# Altium integrated library TI Amplifiers and Linear Special Function Amplifier.IntLib: 708 symbols (part 4 of 47)
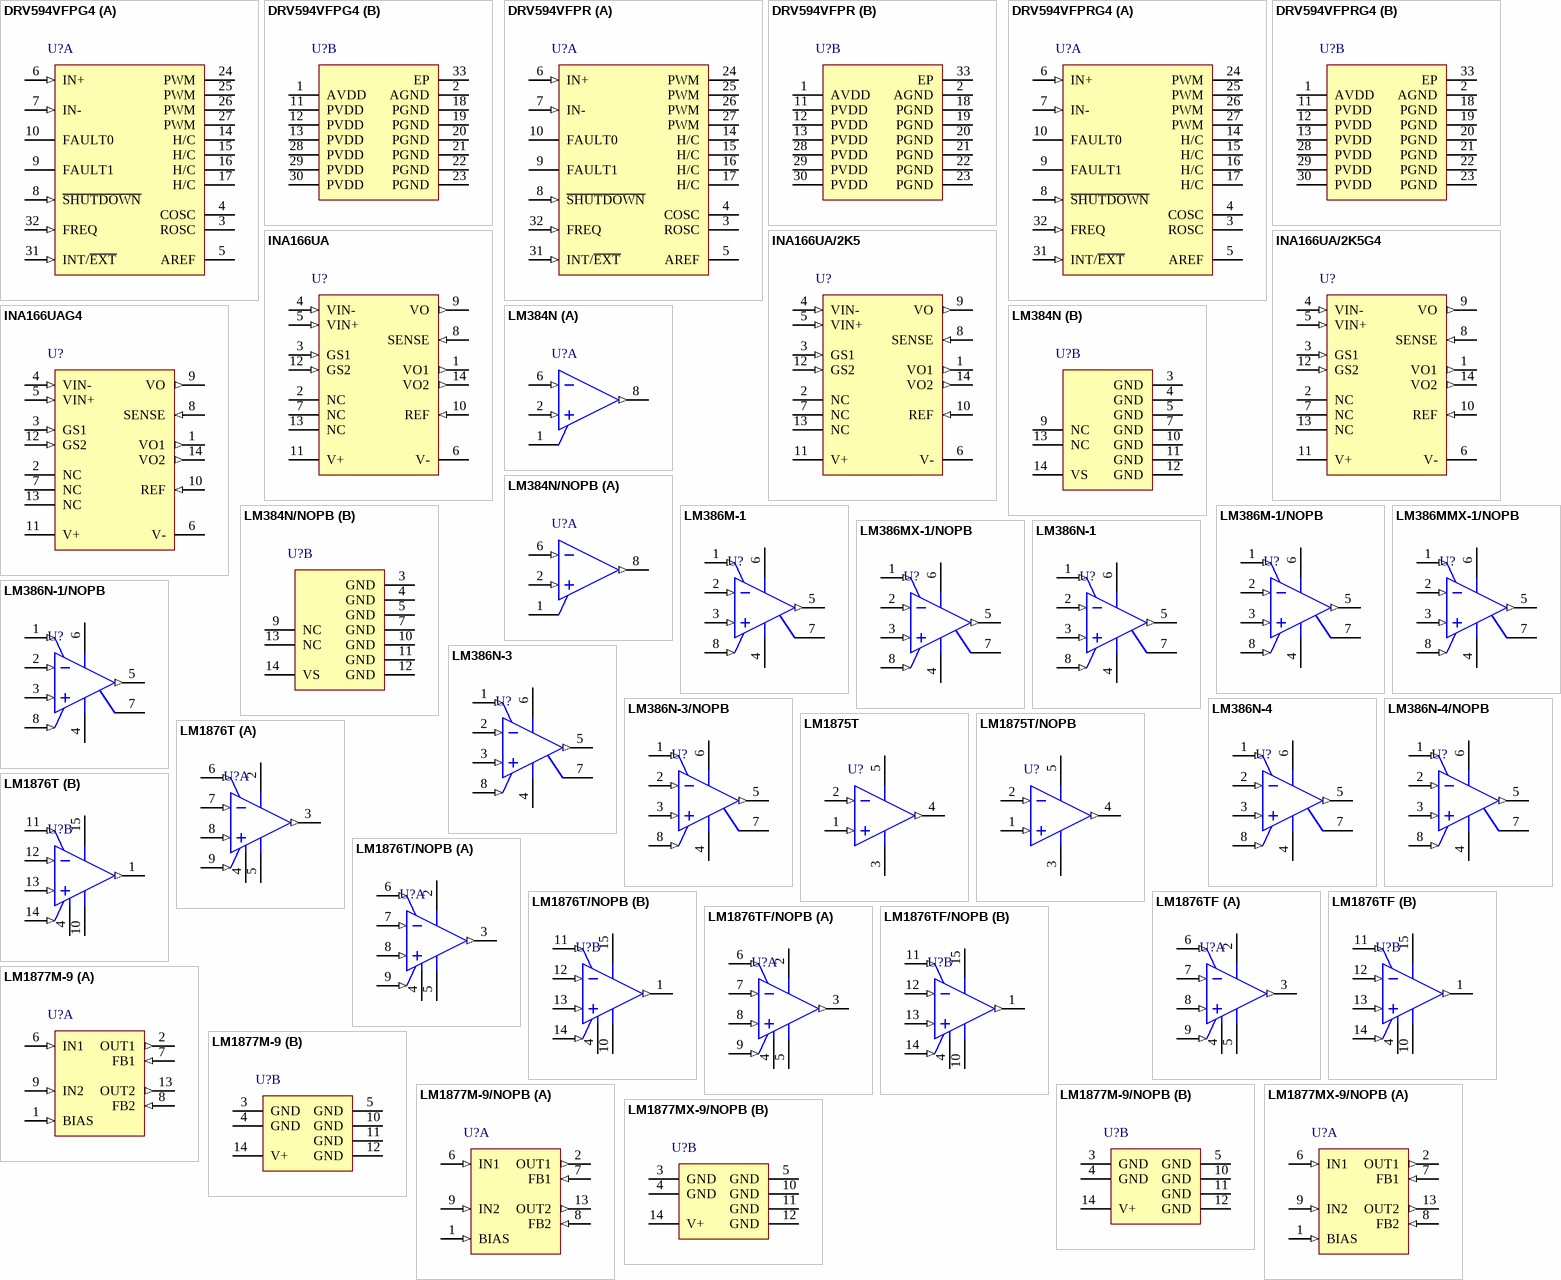
[diagram p42: symbols DRV594VFPG4 to LM1877MX-9/NOPB]

## DRV594VFPG4
designator U?
+/-3 A High-Efficiency PWM Power Driver, -40 to 85 degC, 32-pin QFP (VFP32); Manufacturer: Texas Instruments; PartNumber: DRV594VFPG4; Iq(mA): 4; Iq(Max)(mA): 12; rDS(on)(Ohms): 0.06; Thermal Shutdown: TRUE; Vs(Max)(V): 5.5; Vs(Min)(V): 2.8; DatasheetVersion: SLOS401C; PackageVersion: 4200791/C, 04/2012; PackageReference: VFP32-3505X3505TP; PackageDescription: 32-Pin PowerPAD(TM) Plastic Quad Flatpack, Body 7 x 7 mm, Pitch 0.8 mm; Supplier 1: Mouser; Supplier Part Number 1: N/A; Mounting Technology: Surface Mount; Code_JEDEC: MS-026; ComponentLink1Description: Manufacturer URL; ComponentLink1URL: http://www.ti.com/; ComponentLink2Description: Datasheet; ComponentLink2URL: http://www.ti.com/general/docs/lit/getliterature.tsp?genericPartNumber=DRV594&fileType=pdf; ComponentLink3Description: Package Specification; ComponentLink3URL: http://www.ti.com/lit/ml/mpqf098b/mpqf098b.pdf
footprint TI-VFP32-3505X3505TP_N (QFP, 32-Leads, Body 7x7mm, Pitch 0.8mm, Thermal Pad 3.505x3.505mm, IPC Medium Density)
footprint TI-VFP32-3505X3505TP_L (QFP, 32-Leads, Body 7x7mm, Pitch 0.8mm, Thermal Pad 3.505x3.505mm, IPC High Density)
footprint TI-VFP32-3505X3505TP_M (QFP, 32-Leads, Body 7x7mm, Pitch 0.8mm, Thermal Pad 3.505x3.505mm, IPC Low Density)
part A pins: 3 ROSC "Connect 120-kohm resistor to AGND to set oscillation frequency (either 500 kHz or 100 kHz). Not needed if an external clock is used", 4 COSC "Connect capacitor to ground to set oscillation frequency (220 pF for 500 kHz, 1 nF for 100 kHz) when the internal oscillator is selected; connect clock signal when an external oscillator is used", 5 AREF "Connect 1uF capacitor to ground for AREF voltage filtering", 6 IN+ (in) "Positive differential input", 7 IN- (in) "Negative differential input", 8 ~{SHUTDOWN} (in) "Places the amplifier in shutdown mode when a TTL logic low is applied to this terminal; places the amplifier in normal operation when a TTL logic high is applied", 9 FAULT1 (oc) "Fault flag 1, high when active open drain output (see application information)", 10 FAULT0 (oc) "Fault flag 0, low when active open drain output (see application information)", 14 H/C (hiz) "Direction control output for heat and cool modes (4 pins)", 15 H/C (hiz) "Direction control output for heat and cool modes (4 pins)", 16 H/C (hiz) "Direction control output for heat and cool modes (4 pins)", 17 H/C (hiz) "Direction control output for heat and cool modes (4 pins)", 24 PWM (hiz) "PWM output for voltage magnitude (4 pins)", 25 PWM (hiz) "PWM output for voltage magnitude (4 pins)", 26 PWM (hiz) "PWM output for voltage magnitude (4 pins)", 27 PWM (hiz) "PWM output for voltage magnitude (4 pins)", 31 INT/~{EXT} (in) "Selects the internal oscillator when a TTL logic high is applied to this terminal; selects the use of an external oscillator when a TTL logic low is applied to this terminal", 32 FREQ (in) "Selects 500 kHz switching frequency when a TTL logic low is applied to this terminal; selects 100 kHz switching frequency when a TTL logic high is applied"
part B pins: 1 AVDD (power) "Analog power supply", 2 AGND (power) "Analog ground", 11 PVDD (power) "High-current power supply (6 pins)", 12 PVDD (power) "High-current power supply (6 pins)", 13 PVDD (power) "High-current power supply (6 pins)", 18 PGND (power) "High-current ground (6 pins)", 19 PGND (power) "High-current ground (6 pins)", 20 PGND (power) "High-current ground (6 pins)", 21 PGND (power) "High-current ground (6 pins)", 22 PGND (power) "High-current ground (6 pins)", 23 PGND (power) "High-current ground (6 pins)", 28 PVDD (power) "High-current power supply (6 pins)", 29 PVDD (power) "High-current power supply (6 pins)", 30 PVDD (power) "High-current power supply (6 pins)", 33 EP (power) "Exposed thermal pad"

## DRV594VFPR
designator U?
+/-3 A High-Efficiency PWM Power Driver, -40 to 85 degC, 32-pin QFP (VFP32), Green (RoHS & no Sb/Br); Manufacturer: Texas Instruments; PartNumber: DRV594VFPR; Iq(mA): 4; Iq(Max)(mA): 12; rDS(on)(Ohms): 0.06; Thermal Shutdown: TRUE; Vs(Max)(V): 5.5; Vs(Min)(V): 2.8; DatasheetVersion: SLOS401C; PackageVersion: 4200791/C, 04/2012; PackageReference: VFP32-3505X3505TP; PackageDescription: 32-Pin PowerPAD(TM) Plastic Quad Flatpack, Body 7 x 7 mm, Pitch 0.8 mm; Supplier 1: Digi-Key; Supplier Part Number 1: 296-13644-2-ND; Supplier 2: Digi-Key; Supplier Part Number 2: 296-13644-1-ND; Supplier 3: Digi-Key; Supplier Part Number 3: 296-13644-6-ND; Supplier 4: Newark; Supplier Part Number 4: 02E2697; Supplier 5: Mouser; Supplier Part Number 5: 595-DRV594VFPR; Eco-Plan: Green (RoHS & no Sb/Br); Mounting Technology: Surface Mount; Code_JEDEC: MS-026; ComponentLink1Description: Manufacturer URL; ComponentLink1URL: http://www.ti.com/; ComponentLink2Description: Datasheet; ComponentLink2URL: http://www.ti.com/general/docs/lit/getliterature.tsp?genericPartNumber=DRV594&fileType=pdf; ComponentLink3Description: Package Specification; ComponentLink3URL: http://www.ti.com/lit/ml/mpqf098b/mpqf098b.pdf
footprint TI-VFP32-3505X3505TP_N (QFP, 32-Leads, Body 7x7mm, Pitch 0.8mm, Thermal Pad 3.505x3.505mm, IPC Medium Density)
footprint TI-VFP32-3505X3505TP_L (QFP, 32-Leads, Body 7x7mm, Pitch 0.8mm, Thermal Pad 3.505x3.505mm, IPC High Density)
footprint TI-VFP32-3505X3505TP_M (QFP, 32-Leads, Body 7x7mm, Pitch 0.8mm, Thermal Pad 3.505x3.505mm, IPC Low Density)
part A pins: 3 ROSC "Connect 120-kohm resistor to AGND to set oscillation frequency (either 500 kHz or 100 kHz). Not needed if an external clock is used", 4 COSC "Connect capacitor to ground to set oscillation frequency (220 pF for 500 kHz, 1 nF for 100 kHz) when the internal oscillator is selected; connect clock signal when an external oscillator is used", 5 AREF "Connect 1uF capacitor to ground for AREF voltage filtering", 6 IN+ (in) "Positive differential input", 7 IN- (in) "Negative differential input", 8 ~{SHUTDOWN} (in) "Places the amplifier in shutdown mode when a TTL logic low is applied to this terminal; places the amplifier in normal operation when a TTL logic high is applied", 9 FAULT1 (oc) "Fault flag 1, high when active open drain output (see application information)", 10 FAULT0 (oc) "Fault flag 0, low when active open drain output (see application information)", 14 H/C (hiz) "Direction control output for heat and cool modes (4 pins)", 15 H/C (hiz) "Direction control output for heat and cool modes (4 pins)", 16 H/C (hiz) "Direction control output for heat and cool modes (4 pins)", 17 H/C (hiz) "Direction control output for heat and cool modes (4 pins)", 24 PWM (hiz) "PWM output for voltage magnitude (4 pins)", 25 PWM (hiz) "PWM output for voltage magnitude (4 pins)", 26 PWM (hiz) "PWM output for voltage magnitude (4 pins)", 27 PWM (hiz) "PWM output for voltage magnitude (4 pins)", 31 INT/~{EXT} (in) "Selects the internal oscillator when a TTL logic high is applied to this terminal; selects the use of an external oscillator when a TTL logic low is applied to this terminal", 32 FREQ (in) "Selects 500 kHz switching frequency when a TTL logic low is applied to this terminal; selects 100 kHz switching frequency when a TTL logic high is applied"
part B pins: 1 AVDD (power) "Analog power supply", 2 AGND (power) "Analog ground", 11 PVDD (power) "High-current power supply (6 pins)", 12 PVDD (power) "High-current power supply (6 pins)", 13 PVDD (power) "High-current power supply (6 pins)", 18 PGND (power) "High-current ground (6 pins)", 19 PGND (power) "High-current ground (6 pins)", 20 PGND (power) "High-current ground (6 pins)", 21 PGND (power) "High-current ground (6 pins)", 22 PGND (power) "High-current ground (6 pins)", 23 PGND (power) "High-current ground (6 pins)", 28 PVDD (power) "High-current power supply (6 pins)", 29 PVDD (power) "High-current power supply (6 pins)", 30 PVDD (power) "High-current power supply (6 pins)", 33 EP (power) "Exposed thermal pad"

## DRV594VFPRG4
designator U?
+/-3 A High-Efficiency PWM Power Driver, -40 to 85 degC, 32-pin QFP (VFP32); Manufacturer: Texas Instruments; PartNumber: DRV594VFPRG4; Iq(mA): 4; Iq(Max)(mA): 12; rDS(on)(Ohms): 0.06; Thermal Shutdown: TRUE; Vs(Max)(V): 5.5; Vs(Min)(V): 2.8; DatasheetVersion: SLOS401C; PackageVersion: 4200791/C, 04/2012; PackageReference: VFP32-3505X3505TP; PackageDescription: 32-Pin PowerPAD(TM) Plastic Quad Flatpack, Body 7 x 7 mm, Pitch 0.8 mm; Supplier 1: Mouser; Supplier Part Number 1: N/A; Mounting Technology: Surface Mount; Code_JEDEC: MS-026; ComponentLink1Description: Manufacturer URL; ComponentLink1URL: http://www.ti.com/; ComponentLink2Description: Datasheet; ComponentLink2URL: http://www.ti.com/general/docs/lit/getliterature.tsp?genericPartNumber=DRV594&fileType=pdf; ComponentLink3Description: Package Specification; ComponentLink3URL: http://www.ti.com/lit/ml/mpqf098b/mpqf098b.pdf
footprint TI-VFP32-3505X3505TP_N (QFP, 32-Leads, Body 7x7mm, Pitch 0.8mm, Thermal Pad 3.505x3.505mm, IPC Medium Density)
footprint TI-VFP32-3505X3505TP_L (QFP, 32-Leads, Body 7x7mm, Pitch 0.8mm, Thermal Pad 3.505x3.505mm, IPC High Density)
footprint TI-VFP32-3505X3505TP_M (QFP, 32-Leads, Body 7x7mm, Pitch 0.8mm, Thermal Pad 3.505x3.505mm, IPC Low Density)
part A pins: 3 ROSC "Connect 120-kohm resistor to AGND to set oscillation frequency (either 500 kHz or 100 kHz). Not needed if an external clock is used", 4 COSC "Connect capacitor to ground to set oscillation frequency (220 pF for 500 kHz, 1 nF for 100 kHz) when the internal oscillator is selected; connect clock signal when an external oscillator is used", 5 AREF "Connect 1uF capacitor to ground for AREF voltage filtering", 6 IN+ (in) "Positive differential input", 7 IN- (in) "Negative differential input", 8 ~{SHUTDOWN} (in) "Places the amplifier in shutdown mode when a TTL logic low is applied to this terminal; places the amplifier in normal operation when a TTL logic high is applied", 9 FAULT1 (oc) "Fault flag 1, high when active open drain output (see application information)", 10 FAULT0 (oc) "Fault flag 0, low when active open drain output (see application information)", 14 H/C (hiz) "Direction control output for heat and cool modes (4 pins)", 15 H/C (hiz) "Direction control output for heat and cool modes (4 pins)", 16 H/C (hiz) "Direction control output for heat and cool modes (4 pins)", 17 H/C (hiz) "Direction control output for heat and cool modes (4 pins)", 24 PWM (hiz) "PWM output for voltage magnitude (4 pins)", 25 PWM (hiz) "PWM output for voltage magnitude (4 pins)", 26 PWM (hiz) "PWM output for voltage magnitude (4 pins)", 27 PWM (hiz) "PWM output for voltage magnitude (4 pins)", 31 INT/~{EXT} (in) "Selects the internal oscillator when a TTL logic high is applied to this terminal; selects the use of an external oscillator when a TTL logic low is applied to this terminal", 32 FREQ (in) "Selects 500 kHz switching frequency when a TTL logic low is applied to this terminal; selects 100 kHz switching frequency when a TTL logic high is applied"
part B pins: 1 AVDD (power) "Analog power supply", 2 AGND (power) "Analog ground", 11 PVDD (power) "High-current power supply (6 pins)", 12 PVDD (power) "High-current power supply (6 pins)", 13 PVDD (power) "High-current power supply (6 pins)", 18 PGND (power) "High-current ground (6 pins)", 19 PGND (power) "High-current ground (6 pins)", 20 PGND (power) "High-current ground (6 pins)", 21 PGND (power) "High-current ground (6 pins)", 22 PGND (power) "High-current ground (6 pins)", 23 PGND (power) "High-current ground (6 pins)", 28 PVDD (power) "High-current power supply (6 pins)", 29 PVDD (power) "High-current power supply (6 pins)", 30 PVDD (power) "High-current power supply (6 pins)", 33 EP (power) "Exposed thermal pad"

## INA166UA
designator U?
Low-Noise, Low-Distortion, G=2000 Instrumentation Amplifier, 14-pin SOIC (D14), Green (RoHS & no Sb/Br); Manufacturer: Texas Instruments; PartNumber: INA166UA; CMRR(Min)(dB): 100; Gain(V/V): 2000; Input Bias Current (+/-)(Max)(nA): 12000; Input Offset (+/-)(Max)(uV): 250; Input Offset Drift (+/-)(Typ)(uV/Degrees Celsius): 2.5; Noise at 1kHz(Typ)(nV/rt(Hz)): 1.3; Non-Linearity (+/-)(Max)(%): 0.005; Quiescent Current (+/-)(Typ)(mA): 10; Settling Time to 0.01%(Typ)(us): 3.5; SubFamily: Microphone Preamplifier; Vmax(V): 36; Vmin(V): 9; DatasheetVersion: SBOS178; PackageVersion: 4040047-5/M, 06/2011; PackageReference: D14; PackageDescription: 14-Pin Plastic Small Outline, Body 8.65 x 3.9 mm, Pitch 1.27 mm; Supplier 1: Digi-Key; Supplier Part Number 1: INA166UA-ND; Supplier 2: Newark; Supplier Part Number 2: 74C9827; Supplier 3: Mouser; Supplier Part Number 3: 595-INA166UA; Eco-Plan: Green (RoHS & no Sb/Br); Mounting Technology: Surface Mount; Code_JEDEC: MS-012; ComponentLink1Description: Manufacturer URL; ComponentLink1URL: http://www.ti.com/; ComponentLink2Description: Datasheet; ComponentLink2URL: http://www.ti.com/general/docs/lit/getliterature.tsp?genericPartNumber=INA166&fileType=pdf; ComponentLink3Description: Package Specification; ComponentLink3URL: http://www.ti.com/lit/ml/mpds177g/mpds177g.pdf
footprint TI-D14_N (SOIC, 14-Leads, Body 8.75x4mm, Pitch 1.27mm, IPC Medium Density)
footprint TI-D14_L (SOIC, 14-Leads, Body 8.75x4mm, Pitch 1.27mm, IPC High Density)
footprint TI-D14_M (SOIC, 14-Leads, Body 8.75x4mm, Pitch 1.27mm, IPC Low Density)
pins: 1 VO1 (out), 2 NC, 3 GS1 (in), 4 VIN- (in), 5 VIN+ (in), 6 V- (power), 7 NC, 8 SENSE (in), 9 VO (out), 10 REF (in), 11 V+ (power), 12 GS2 (in), 13 NC, 14 VO2 (out)

## INA166UA/2K5
designator U?
Low-Noise, Low-Distortion, G=2000 Instrumentation Amplifier, 14-pin SOIC (D14), Green (RoHS & no Sb/Br); Manufacturer: Texas Instruments; PartNumber: INA166UA/2K5; CMRR(Min)(dB): 100; Gain(V/V): 2000; Input Bias Current (+/-)(Max)(nA): 12000; Input Offset (+/-)(Max)(uV): 250; Input Offset Drift (+/-)(Typ)(uV/Degrees Celsius): 2.5; Noise at 1kHz(Typ)(nV/rt(Hz)): 1.3; Non-Linearity (+/-)(Max)(%): 0.005; Quiescent Current (+/-)(Typ)(mA): 10; Settling Time to 0.01%(Typ)(us): 3.5; SubFamily: Microphone Preamplifier; Vmax(V): 36; Vmin(V): 9; DatasheetVersion: SBOS178; PackageVersion: 4040047-5/M, 06/2011; PackageReference: D14; PackageDescription: 14-Pin Plastic Small Outline, Body 8.65 x 3.9 mm, Pitch 1.27 mm; Supplier 1: Digi-Key; Supplier Part Number 1: INA166UATR-ND; Supplier 2: Mouser; Supplier Part Number 2: 595-INA166UA/2K5; Eco-Plan: Green (RoHS & no Sb/Br); Mounting Technology: Surface Mount; Code_JEDEC: MS-012; ComponentLink1Description: Manufacturer URL; ComponentLink1URL: http://www.ti.com/; ComponentLink2Description: Datasheet; ComponentLink2URL: http://www.ti.com/general/docs/lit/getliterature.tsp?genericPartNumber=INA166&fileType=pdf; ComponentLink3Description: Package Specification; ComponentLink3URL: http://www.ti.com/lit/ml/mpds177g/mpds177g.pdf
footprint TI-D14_N (SOIC, 14-Leads, Body 8.75x4mm, Pitch 1.27mm, IPC Medium Density)
footprint TI-D14_L (SOIC, 14-Leads, Body 8.75x4mm, Pitch 1.27mm, IPC High Density)
footprint TI-D14_M (SOIC, 14-Leads, Body 8.75x4mm, Pitch 1.27mm, IPC Low Density)
pins: 1 VO1 (out), 2 NC, 3 GS1 (in), 4 VIN- (in), 5 VIN+ (in), 6 V- (power), 7 NC, 8 SENSE (in), 9 VO (out), 10 REF (in), 11 V+ (power), 12 GS2 (in), 13 NC, 14 VO2 (out)

## INA166UA/2K5G4
designator U?
Low-Noise, Low-Distortion, G=2000 Instrumentation Amplifier, 14-pin SOIC (D14), Green (RoHS & no Sb/Br); Manufacturer: Texas Instruments; PartNumber: INA166UA/2K5G4; CMRR(Min)(dB): 100; Gain(V/V): 2000; Input Bias Current (+/-)(Max)(nA): 12000; Input Offset (+/-)(Max)(uV): 250; Input Offset Drift (+/-)(Typ)(uV/Degrees Celsius): 2.5; Noise at 1kHz(Typ)(nV/rt(Hz)): 1.3; Non-Linearity (+/-)(Max)(%): 0.005; Quiescent Current (+/-)(Typ)(mA): 10; Settling Time to 0.01%(Typ)(us): 3.5; SubFamily: Microphone Preamplifier; Vmax(V): 36; Vmin(V): 9; DatasheetVersion: SBOS178; PackageVersion: 4040047-5/M, 06/2011; PackageReference: D14; PackageDescription: 14-Pin Plastic Small Outline, Body 8.65 x 3.9 mm, Pitch 1.27 mm; Supplier 1: Digi-Key; Supplier Part Number 1: INA166UA/2K5G4-ND; Supplier 2: Mouser; Supplier Part Number 2: 595-INA166UA/2K5G4; Eco-Plan: Green (RoHS & no Sb/Br); Mounting Technology: Surface Mount; Code_JEDEC: MS-012; ComponentLink1Description: Manufacturer URL; ComponentLink1URL: http://www.ti.com/; ComponentLink2Description: Datasheet; ComponentLink2URL: http://www.ti.com/general/docs/lit/getliterature.tsp?genericPartNumber=INA166&fileType=pdf; ComponentLink3Description: Package Specification; ComponentLink3URL: http://www.ti.com/lit/ml/mpds177g/mpds177g.pdf
footprint TI-D14_N (SOIC, 14-Leads, Body 8.75x4mm, Pitch 1.27mm, IPC Medium Density)
footprint TI-D14_L (SOIC, 14-Leads, Body 8.75x4mm, Pitch 1.27mm, IPC High Density)
footprint TI-D14_M (SOIC, 14-Leads, Body 8.75x4mm, Pitch 1.27mm, IPC Low Density)
pins: 1 VO1 (out), 2 NC, 3 GS1 (in), 4 VIN- (in), 5 VIN+ (in), 6 V- (power), 7 NC, 8 SENSE (in), 9 VO (out), 10 REF (in), 11 V+ (power), 12 GS2 (in), 13 NC, 14 VO2 (out)

## INA166UAG4
designator U?
Low-Noise, Low-Distortion, G=2000 Instrumentation Amplifier, 14-pin SOIC (D14), Green (RoHS & no Sb/Br); Manufacturer: Texas Instruments; PartNumber: INA166UAG4; CMRR(Min)(dB): 100; Gain(V/V): 2000; Input Bias Current (+/-)(Max)(nA): 12000; Input Offset (+/-)(Max)(uV): 250; Input Offset Drift (+/-)(Typ)(uV/Degrees Celsius): 2.5; Noise at 1kHz(Typ)(nV/rt(Hz)): 1.3; Non-Linearity (+/-)(Max)(%): 0.005; Quiescent Current (+/-)(Typ)(mA): 10; Settling Time to 0.01%(Typ)(us): 3.5; SubFamily: Microphone Preamplifier; Vmax(V): 36; Vmin(V): 9; DatasheetVersion: SBOS178; PackageVersion: 4040047-5/M, 06/2011; PackageReference: D14; PackageDescription: 14-Pin Plastic Small Outline, Body 8.65 x 3.9 mm, Pitch 1.27 mm; Supplier 1: Digi-Key; Supplier Part Number 1: INA166UAG4-ND; Supplier 2: Mouser; Supplier Part Number 2: 595-INA166UAG4; Eco-Plan: Green (RoHS & no Sb/Br); Mounting Technology: Surface Mount; Code_JEDEC: MS-012; ComponentLink1Description: Manufacturer URL; ComponentLink1URL: http://www.ti.com/; ComponentLink2Description: Datasheet; ComponentLink2URL: http://www.ti.com/general/docs/lit/getliterature.tsp?genericPartNumber=INA166&fileType=pdf; ComponentLink3Description: Package Specification; ComponentLink3URL: http://www.ti.com/lit/ml/mpds177g/mpds177g.pdf
footprint TI-D14_N (SOIC, 14-Leads, Body 8.75x4mm, Pitch 1.27mm, IPC Medium Density)
footprint TI-D14_L (SOIC, 14-Leads, Body 8.75x4mm, Pitch 1.27mm, IPC High Density)
footprint TI-D14_M (SOIC, 14-Leads, Body 8.75x4mm, Pitch 1.27mm, IPC Low Density)
pins: 1 VO1 (out), 2 NC, 3 GS1 (in), 4 VIN- (in), 5 VIN+ (in), 6 V- (power), 7 NC, 8 SENSE (in), 9 VO (out), 10 REF (in), 11 V+ (power), 12 GS2 (in), 13 NC, 14 VO2 (out)

## LM384N
designator U?
5 W Audio Power Amplifier, 0 to 70 degC, 14-pin DIP (NFF14); Manufacturer: Texas Instruments; PartNumber: LM384N; Input Type: Analog; Max. Number of Speaker Outputs: 1; SubFamily: Mid/High-Power Amplifier; DatasheetVersion: SNAS547C; PackageVersion: Rev. G, 02/2013; PackageDescription: 14-Pin Plastic In-Line, Body 19.05 x 6.35 mm, Pitch 2.54 mm; Supplier 1: Digi-Key; Supplier Part Number 1: LM384N-ND; Supplier 2: Farnell; Supplier Part Number 2: 9488316; Supplier 3: Newark; Supplier Part Number 3: 92F291; Supplier 4: Mouser; Supplier Part Number 4: 926-LM384N; Mounting Technology: Through Hole; ComponentLink1Description: Manufacturer URL; ComponentLink1URL: http://www.ti.com/; ComponentLink2Description: Datasheet; ComponentLink2URL: http://www.ti.com/general/docs/lit/getliterature.tsp?genericPartNumber=LM384&fileType=pdf; ComponentLink3Description: Package Specification; ComponentLink3URL: http://www.ti.com/litv/pdf/mpdi093
footprint TI-NFF14 (DIP, 14-Leads, Body 19.05x6.35mm, Pitch 2.54mm)
part A pins: 1 BYPASS, 2 IN+ (in), 6 IN- (in), 8 VOUT (out)
part B pins: 3 GND (power), 4 GND (power), 5 GND (power), 7 GND (power), 9 NC, 10 GND (power), 11 GND (power), 12 GND (power), 13 NC, 14 VS (power)

## LM384N/NOPB
designator U?
5 W Audio Power Amplifier, 0 to 70 degC, 14-pin DIP (NFF14), Pb-Free (RoHS Exempt); Manufacturer: Texas Instruments; PartNumber: LM384N/NOPB; Input Type: Analog; Max. Number of Speaker Outputs: 1; SubFamily: Mid/High-Power Amplifier; DatasheetVersion: SNAS547C; PackageVersion: Rev. G, 02/2013; PackageDescription: 14-Pin Plastic In-Line, Body 19.05 x 6.35 mm, Pitch 2.54 mm; Supplier 1: Digi-Key; Supplier Part Number 1: LM384N/NOPB-ND; Supplier 2: Farnell; Supplier Part Number 2: 1184984; Supplier 3: Newark; Supplier Part Number 3: 41K5062; Supplier 4: Mouser; Supplier Part Number 4: 926-LM384N/NOPB; Eco-Plan: Pb-Free (RoHS Exempt); Mounting Technology: Through Hole; ComponentLink1Description: Manufacturer URL; ComponentLink1URL: http://www.ti.com/; ComponentLink2Description: Datasheet; ComponentLink2URL: http://www.ti.com/general/docs/lit/getliterature.tsp?genericPartNumber=LM384&fileType=pdf; ComponentLink3Description: Package Specification; ComponentLink3URL: http://www.ti.com/litv/pdf/mpdi093
footprint TI-NFF14 (DIP, 14-Leads, Body 19.05x6.35mm, Pitch 2.54mm)
part A pins: 1 BYPASS, 2 IN+ (in), 6 IN- (in), 8 VOUT (out)
part B pins: 3 GND (power), 4 GND (power), 5 GND (power), 7 GND (power), 9 NC, 10 GND (power), 11 GND (power), 12 GND (power), 13 NC, 14 VS (power)

## LM386M-1
designator U?
Low Voltage Audio Power Amplifier, 0 to 70 degC, 8-pin SOIC (D8); Manufacturer: Texas Instruments; PartNumber: LM386M-1; Input Type: Analog; Max. Number of Speaker Outputs: 1; SubFamily: Mid/High-Power Amplifier; DatasheetVersion: SNAS545A; PackageVersion: 4040047-3/M, 06/2011; PackageReference: D8; PackageDescription: 8-Pin Plastic Small Outline, Body 4.9 x 3.9 mm, Pitch 1.27 mm; Supplier 1: Digi-Key; Supplier Part Number 1: LM386M-1-ND; Supplier 2: Farnell; Supplier Part Number 2: 9488324; Supplier 3: Newark; Supplier Part Number 3: 92F292; Supplier 4: Mouser; Supplier Part Number 4: 926-LM386M-1; Mounting Technology: Surface Mount; Code_JEDEC: MS-012; ComponentLink1Description: Manufacturer URL; ComponentLink1URL: http://www.ti.com/; ComponentLink2Description: Datasheet; ComponentLink2URL: http://www.ti.com/general/docs/lit/getliterature.tsp?genericPartNumber=LM386&fileType=pdf; ComponentLink3Description: Package Specification; ComponentLink3URL: http://www.ti.com/litv/pdf/msoi002j
footprint TI-D8_N (SOIC, 8-Leads, Body 5x4mm, Pitch 1.27mm, IPC Medium Density)
footprint TI-D8_L (SOIC, 8-Leads, Body 5x4mm, Pitch 1.27mm, IPC High Density)
footprint TI-D8_M (SOIC, 8-Leads, Body 5x4mm, Pitch 1.27mm, IPC Low Density)
pins: 1 GAIN (in), 2 IN- (in), 3 IN+ (in), 4 GND (power), 5 VOUT (out), 6 VS (power), 7 BYPASS, 8 GAIN (in)

## LM386M-1/NOPB
designator U?
Low Voltage Audio Power Amplifier, 0 to 70 degC, 8-pin SOIC (D8), Green (RoHS & no Sb/Br); Manufacturer: Texas Instruments; PartNumber: LM386M-1/NOPB; Input Type: Analog; Max. Number of Speaker Outputs: 1; SubFamily: Mid/High-Power Amplifier; DatasheetVersion: SNAS545A; PackageVersion: 4040047-3/M, 06/2011; PackageReference: D8; PackageDescription: 8-Pin Plastic Small Outline, Body 4.9 x 3.9 mm, Pitch 1.27 mm; Supplier 1: Digi-Key; Supplier Part Number 1: LM386M-1/NOPB-ND; Supplier 2: Farnell; Supplier Part Number 2: 1564701; Supplier 3: Newark; Supplier Part Number 3: 41K5099; Supplier 4: Mouser; Supplier Part Number 4: 926-LM386M-1/NOPB; Eco-Plan: Green (RoHS & no Sb/Br); Mounting Technology: Surface Mount; Code_JEDEC: MS-012; ComponentLink1Description: Manufacturer URL; ComponentLink1URL: http://www.ti.com/; ComponentLink2Description: Datasheet; ComponentLink2URL: http://www.ti.com/general/docs/lit/getliterature.tsp?genericPartNumber=LM386&fileType=pdf; ComponentLink3Description: Package Specification; ComponentLink3URL: http://www.ti.com/litv/pdf/msoi002j
footprint TI-D8_N (SOIC, 8-Leads, Body 5x4mm, Pitch 1.27mm, IPC Medium Density)
footprint TI-D8_L (SOIC, 8-Leads, Body 5x4mm, Pitch 1.27mm, IPC High Density)
footprint TI-D8_M (SOIC, 8-Leads, Body 5x4mm, Pitch 1.27mm, IPC Low Density)
pins: 1 GAIN (in), 2 IN- (in), 3 IN+ (in), 4 GND (power), 5 VOUT (out), 6 VS (power), 7 BYPASS, 8 GAIN (in)

## LM386MMX-1/NOPB
designator U?
Low Voltage Audio Power Amplifier, 0 to 70 degC, 8-pin SOP (DGK8), Green (RoHS & no Sb/Br); Manufacturer: Texas Instruments; PartNumber: LM386MMX-1/NOPB; Input Type: Analog; Max. Number of Speaker Outputs: 1; SubFamily: Mid/High-Power Amplifier; DatasheetVersion: SNAS545A; PackageVersion: 4073329/E, 05/2006; PackageReference: DGK8; PackageDescription: 8-Pin Thin Small Outline, Body 3 x 3 mm, Pitch 0.65 mm; Supplier 1: Digi-Key; Supplier Part Number 1: LM386MMX-1/NOPBTR-ND; Supplier 2: Digi-Key; Supplier Part Number 2: LM386MMX-1/NOPBCT-ND; Supplier 3: Digi-Key; Supplier Part Number 3: LM386MMX-1/NOPBDKR-ND; Supplier 4: Mouser; Supplier Part Number 4: 926-LM386MMX-1/NOPB; Eco-Plan: Green (RoHS & no Sb/Br); Mounting Technology: Surface Mount; Code_JEDEC: MO-187; ComponentLink1Description: Manufacturer URL; ComponentLink1URL: http://www.ti.com/; ComponentLink2Description: Datasheet; ComponentLink2URL: http://www.ti.com/general/docs/lit/getliterature.tsp?genericPartNumber=LM386&fileType=pdf; ComponentLink3Description: Package Specification; ComponentLink3URL: http://www.ti.com/litv/pdf/mpds028d
footprint TI-DGK8_N (SOP, 8-Leads, Body 3.1x3.1mm, Pitch 0.65mm, IPC Medium Density)
footprint TI-DGK8_L (SOP, 8-Leads, Body 3.1x3.1mm, Pitch 0.65mm, IPC High Density)
footprint TI-DGK8_M (SOP, 8-Leads, Body 3.1x3.1mm, Pitch 0.65mm, IPC Low Density)
pins: 1 GAIN (in), 2 IN- (in), 3 IN+ (in), 4 GND (power), 5 VOUT (out), 6 VS (power), 7 BYPASS, 8 GAIN (in)

## LM386MX-1/NOPB
designator U?
Low Voltage Audio Power Amplifier, 0 to 70 degC, 8-pin SOIC (D8), Green (RoHS & no Sb/Br); Manufacturer: Texas Instruments; PartNumber: LM386MX-1/NOPB; Input Type: Analog; Max. Number of Speaker Outputs: 1; SubFamily: Mid/High-Power Amplifier; DatasheetVersion: SNAS545A; PackageVersion: 4040047-3/M, 06/2011; PackageReference: D8; PackageDescription: 8-Pin Plastic Small Outline, Body 4.9 x 3.9 mm, Pitch 1.27 mm; Supplier 1: Digi-Key; Supplier Part Number 1: LM386MX-1/NOPBTR-ND; Supplier 2: Digi-Key; Supplier Part Number 2: LM386MX-1/NOPBCT-ND; Supplier 3: Digi-Key; Supplier Part Number 3: LM386MX-1/NOPBDKR-ND; Supplier 4: Farnell; Supplier Part Number 4: 1496163; Supplier 5: Newark; Supplier Part Number 5: 41K5101; Supplier 6: Newark; Supplier Part Number 6: 28X4340; Supplier 7: Mouser; Supplier Part Number 7: 926-LM386MX-1/NOPB; Eco-Plan: Green (RoHS & no Sb/Br); Mounting Technology: Surface Mount; Code_JEDEC: MS-012; ComponentLink1Description: Manufacturer URL; ComponentLink1URL: http://www.ti.com/; ComponentLink2Description: Datasheet; ComponentLink2URL: http://www.ti.com/general/docs/lit/getliterature.tsp?genericPartNumber=LM386&fileType=pdf; ComponentLink3Description: Package Specification; ComponentLink3URL: http://www.ti.com/litv/pdf/msoi002j
footprint TI-D8_N (SOIC, 8-Leads, Body 5x4mm, Pitch 1.27mm, IPC Medium Density)
footprint TI-D8_L (SOIC, 8-Leads, Body 5x4mm, Pitch 1.27mm, IPC High Density)
footprint TI-D8_M (SOIC, 8-Leads, Body 5x4mm, Pitch 1.27mm, IPC Low Density)
pins: 1 GAIN (in), 2 IN- (in), 3 IN+ (in), 4 GND (power), 5 VOUT (out), 6 VS (power), 7 BYPASS, 8 GAIN (in)

## LM386N-1
designator U?
Low Voltage Audio Power Amplifier, 0 to 70 degC, 8-pin DIP (P8); Manufacturer: Texas Instruments; PartNumber: LM386N-1; Input Type: Analog; Max. Number of Speaker Outputs: 1; SubFamily: Mid/High-Power Amplifier; DatasheetVersion: SNAS545A; PackageVersion: 4040082/E, 04/2010; PackageReference: P8; PackageDescription: 8-Pin Plastic In-Line, Body 9.59 x 6.35 mm, Pitch 2.54 mm; Supplier 1: Digi-Key; Supplier Part Number 1: LM386N-1-ND; Supplier 2: Farnell; Supplier Part Number 2: 9488332; Supplier 3: Newark; Supplier Part Number 3: 92F293; Supplier 4: Mouser; Supplier Part Number 4: 926-LM386N-1; Mounting Technology: Through Hole; Code_JEDEC: MS-001; ComponentLink1Description: Manufacturer URL; ComponentLink1URL: http://www.ti.com/; ComponentLink2Description: Datasheet; ComponentLink2URL: http://www.ti.com/general/docs/lit/getliterature.tsp?genericPartNumber=LM386&fileType=pdf; ComponentLink3Description: Package Specification; ComponentLink3URL: http://www.ti.com/litv/pdf/mpdi001b
footprint TI-P8 (DIP, 8-Leads, Body 10.15x6.6mm, Pitch 2.54mm)
pins: 1 GAIN (in), 2 IN- (in), 3 IN+ (in), 4 GND (power), 5 VOUT (out), 6 VS (power), 7 BYPASS, 8 GAIN (in)

## LM386N-1/NOPB
designator U?
Low Voltage Audio Power Amplifier, 0 to 70 degC, 8-pin DIP (P8), Green (RoHS & no Sb/Br); Manufacturer: Texas Instruments; PartNumber: LM386N-1/NOPB; Input Type: Analog; Max. Number of Speaker Outputs: 1; SubFamily: Mid/High-Power Amplifier; DatasheetVersion: SNAS545A; PackageVersion: 4040082/E, 04/2010; PackageReference: P8; PackageDescription: 8-Pin Plastic In-Line, Body 9.59 x 6.35 mm, Pitch 2.54 mm; Supplier 1: Digi-Key; Supplier Part Number 1: LM386N-1/NOPB-ND; Supplier 2: Newark; Supplier Part Number 2: 41K5102; Supplier 3: Mouser; Supplier Part Number 3: 926-LM386N-1/NOPB; Eco-Plan: Green (RoHS & no Sb/Br); Mounting Technology: Through Hole; Code_JEDEC: MS-001; ComponentLink1Description: Manufacturer URL; ComponentLink1URL: http://www.ti.com/; ComponentLink2Description: Datasheet; ComponentLink2URL: http://www.ti.com/general/docs/lit/getliterature.tsp?genericPartNumber=LM386&fileType=pdf; ComponentLink3Description: Package Specification; ComponentLink3URL: http://www.ti.com/litv/pdf/mpdi001b
footprint TI-P8 (DIP, 8-Leads, Body 10.15x6.6mm, Pitch 2.54mm)
pins: 1 GAIN (in), 2 IN- (in), 3 IN+ (in), 4 GND (power), 5 VOUT (out), 6 VS (power), 7 BYPASS, 8 GAIN (in)

## LM386N-3
designator U?
Low Voltage Audio Power Amplifier, 0 to 70 degC, 8-pin DIP (P8); Manufacturer: Texas Instruments; PartNumber: LM386N-3; Input Type: Analog; Max. Number of Speaker Outputs: 1; SubFamily: Mid/High-Power Amplifier; DatasheetVersion: SNAS545A; PackageVersion: 4040082/E, 04/2010; PackageReference: P8; PackageDescription: 8-Pin Plastic In-Line, Body 9.59 x 6.35 mm, Pitch 2.54 mm; Supplier 1: Digi-Key; Supplier Part Number 1: LM386N-3-ND; Supplier 2: Farnell; Supplier Part Number 2: 9488340; Supplier 3: Mouser; Supplier Part Number 3: 926-LM386N-3; Mounting Technology: Through Hole; Code_JEDEC: MS-001; ComponentLink1Description: Manufacturer URL; ComponentLink1URL: http://www.ti.com/; ComponentLink2Description: Datasheet; ComponentLink2URL: http://www.ti.com/general/docs/lit/getliterature.tsp?genericPartNumber=LM386&fileType=pdf; ComponentLink3Description: Package Specification; ComponentLink3URL: http://www.ti.com/litv/pdf/mpdi001b
footprint TI-P8 (DIP, 8-Leads, Body 10.15x6.6mm, Pitch 2.54mm)
pins: 1 GAIN (in), 2 IN- (in), 3 IN+ (in), 4 GND (power), 5 VOUT (out), 6 VS (power), 7 BYPASS, 8 GAIN (in)

## LM386N-3/NOPB
designator U?
Low Voltage Audio Power Amplifier, 0 to 70 degC, 8-pin DIP (P8), Green (RoHS & no Sb/Br); Manufacturer: Texas Instruments; PartNumber: LM386N-3/NOPB; Input Type: Analog; Max. Number of Speaker Outputs: 1; SubFamily: Mid/High-Power Amplifier; DatasheetVersion: SNAS545A; PackageVersion: 4040082/E, 04/2010; PackageReference: P8; PackageDescription: 8-Pin Plastic In-Line, Body 9.59 x 6.35 mm, Pitch 2.54 mm; Supplier 1: Digi-Key; Supplier Part Number 1: LM386N-3/NOPB-ND; Supplier 2: Farnell; Supplier Part Number 2: 1496164; Supplier 3: Newark; Supplier Part Number 3: 41K5103; Supplier 4: Mouser; Supplier Part Number 4: 926-LM386N-3/NOPB; Eco-Plan: Green (RoHS & no Sb/Br); Mounting Technology: Through Hole; Code_JEDEC: MS-001; ComponentLink1Description: Manufacturer URL; ComponentLink1URL: http://www.ti.com/; ComponentLink2Description: Datasheet; ComponentLink2URL: http://www.ti.com/general/docs/lit/getliterature.tsp?genericPartNumber=LM386&fileType=pdf; ComponentLink3Description: Package Specification; ComponentLink3URL: http://www.ti.com/litv/pdf/mpdi001b
footprint TI-P8 (DIP, 8-Leads, Body 10.15x6.6mm, Pitch 2.54mm)
pins: 1 GAIN (in), 2 IN- (in), 3 IN+ (in), 4 GND (power), 5 VOUT (out), 6 VS (power), 7 BYPASS, 8 GAIN (in)

## LM386N-4
designator U?
Low Voltage Audio Power Amplifier, 0 to 70 degC, 8-pin DIP (P8); Manufacturer: Texas Instruments; PartNumber: LM386N-4; Input Type: Analog; Max. Number of Speaker Outputs: 1; SubFamily: Mid/High-Power Amplifier; DatasheetVersion: SNAS545A; PackageVersion: 4040082/E, 04/2010; PackageReference: P8; PackageDescription: 8-Pin Plastic In-Line, Body 9.59 x 6.35 mm, Pitch 2.54 mm; Supplier 1: Digi-Key; Supplier Part Number 1: LM386N-4-ND; Supplier 2: Farnell; Supplier Part Number 2: 9488359; Supplier 3: Newark; Supplier Part Number 3: 07B6623; Supplier 4: Mouser; Supplier Part Number 4: 926-LM386N-4; Mounting Technology: Through Hole; Code_JEDEC: MS-001; ComponentLink1Description: Manufacturer URL; ComponentLink1URL: http://www.ti.com/; ComponentLink2Description: Datasheet; ComponentLink2URL: http://www.ti.com/general/docs/lit/getliterature.tsp?genericPartNumber=LM386&fileType=pdf; ComponentLink3Description: Package Specification; ComponentLink3URL: http://www.ti.com/litv/pdf/mpdi001b
footprint TI-P8 (DIP, 8-Leads, Body 10.15x6.6mm, Pitch 2.54mm)
pins: 1 GAIN (in), 2 IN- (in), 3 IN+ (in), 4 GND (power), 5 VOUT (out), 6 VS (power), 7 BYPASS, 8 GAIN (in)

## LM386N-4/NOPB
designator U?
Low Voltage Audio Power Amplifier, 0 to 70 degC, 8-pin DIP (P8), Green (RoHS & no Sb/Br); Manufacturer: Texas Instruments; PartNumber: LM386N-4/NOPB; Input Type: Analog; Max. Number of Speaker Outputs: 1; SubFamily: Mid/High-Power Amplifier; DatasheetVersion: SNAS545A; PackageVersion: 4040082/E, 04/2010; PackageReference: P8; PackageDescription: 8-Pin Plastic In-Line, Body 9.59 x 6.35 mm, Pitch 2.54 mm; Supplier 1: Digi-Key; Supplier Part Number 1: LM386N-4/NOPB-ND; Supplier 2: Newark; Supplier Part Number 2: 41K5104; Supplier 3: Mouser; Supplier Part Number 3: 926-LM386N-4/NOPB; Eco-Plan: Green (RoHS & no Sb/Br); Mounting Technology: Through Hole; Code_JEDEC: MS-001; ComponentLink1Description: Manufacturer URL; ComponentLink1URL: http://www.ti.com/; ComponentLink2Description: Datasheet; ComponentLink2URL: http://www.ti.com/general/docs/lit/getliterature.tsp?genericPartNumber=LM386&fileType=pdf; ComponentLink3Description: Package Specification; ComponentLink3URL: http://www.ti.com/litv/pdf/mpdi001b
footprint TI-P8 (DIP, 8-Leads, Body 10.15x6.6mm, Pitch 2.54mm)
pins: 1 GAIN (in), 2 IN- (in), 3 IN+ (in), 4 GND (power), 5 VOUT (out), 6 VS (power), 7 BYPASS, 8 GAIN (in)

## LM1875T
designator U?
20 W Audio Power Amplifier, 0 to 70 degC, 5-pin FM (NDH5); Manufacturer: Texas Instruments; PartNumber: LM1875T; Analog Supply Max [V]: 60; Analog Supply Min [V]: 16; Input Type: Analog; Max. Number of Speaker Outputs: 1; SubFamily: Mid/High-Power Amplifier; DatasheetVersion: SNAS524A; PackageVersion: Rev. A, 02/2013; PackageReference: NDH5; PackageDescription: 5-Pin Metal Flange Mount, Body 10.16 x 4.57 mm, Pitch 1.7 mm; Supplier 1: Digi-Key; Supplier Part Number 1: 296-36099-5-ND; Supplier 2: Farnell; Supplier Part Number 2: 9488405; Supplier 3: Newark; Supplier Part Number 3: 92F268; Supplier 4: Mouser; Supplier Part Number 4: 926-LM1875T; Mounting Technology: Through Hole; ComponentLink1Description: Manufacturer URL; ComponentLink1URL: http://www.ti.com/; ComponentLink2Description: Datasheet; ComponentLink2URL: http://www.ti.com/general/docs/lit/getliterature.tsp?genericPartNumber=LM1875&fileType=pdf; ComponentLink3Description: Package Specification; ComponentLink3URL: http://www.ti.com/lit/ml/mmsf011/mmsf011.pdf
footprint TI-NDH5 (FM, 5-Leads, Body 10.55x4.7mm, Pitch 1.7mm)
pins: 1 IN+ (in), 2 IN- (in), 3 VEE- (power), 4 OUT (out), 5 VCC (power)

## LM1875T/NOPB
designator U?
20 W Audio Power Amplifier, 0 to 70 degC, 5-pin FM (NDH5), Green (RoHS & no Sb/Br); Manufacturer: Texas Instruments; PartNumber: LM1875T/NOPB; Analog Supply Max [V]: 60; Analog Supply Min [V]: 16; Input Type: Analog; Max. Number of Speaker Outputs: 1; SubFamily: Mid/High-Power Amplifier; DatasheetVersion: SNAS524A; PackageVersion: Rev. A, 02/2013; PackageReference: NDH5; PackageDescription: 5-Pin Metal Flange Mount, Body 10.16 x 4.57 mm, Pitch 1.7 mm; Supplier 1: Digi-Key; Supplier Part Number 1: LM1875T/NOPB-ND; Supplier 2: Farnell; Supplier Part Number 2: 1468913; Supplier 3: Newark; Supplier Part Number 3: 41K3523; Supplier 4: Mouser; Supplier Part Number 4: 926-LM1875T/NOPB; Eco-Plan: Green (RoHS & no Sb/Br); Mounting Technology: Through Hole; ComponentLink1Description: Manufacturer URL; ComponentLink1URL: http://www.ti.com/; ComponentLink2Description: Datasheet; ComponentLink2URL: http://www.ti.com/general/docs/lit/getliterature.tsp?genericPartNumber=LM1875&fileType=pdf; ComponentLink3Description: Package Specification; ComponentLink3URL: http://www.ti.com/lit/ml/mmsf011/mmsf011.pdf
footprint TI-NDH5 (FM, 5-Leads, Body 10.55x4.7mm, Pitch 1.7mm)
pins: 1 IN+ (in), 2 IN- (in), 3 VEE- (power), 4 OUT (out), 5 VCC (power)

## LM1876T
designator U?
Overture Audio Power Amplifier Series Dual 20 Watt Audio Power Amplifier with Mute & Standby Modes, -20 to 85 degC, 15-pin FM (NDL15); Manufacturer: Texas Instruments; PartNumber: LM1876T; Analog Supply Max [V]: 64; Analog Supply Min [V]: 20; Input Type: Analog; Max. Number of Speaker Outputs: 2; SubFamily: Mid/High-Power Amplifier; DatasheetVersion: SNAS097C; PackageVersion: Rev. B, 04/2013; PackageReference: NDL15; PackageDescription: 15-Pin Metal Flange Mount, Body 20.02 x 4.5 mm, Pitch 1.27 mm; Supplier 1: Digi-Key; Supplier Part Number 1: LM1876T-ND; Supplier 2: Mouser; Supplier Part Number 2: 926-LM1876T; Power Stage Supply Min(V): 20; Mounting Technology: Through Hole; ComponentLink1Description: Manufacturer URL; ComponentLink1URL: http://www.ti.com/; ComponentLink2Description: Datasheet; ComponentLink2URL: http://www.ti.com/general/docs/lit/getliterature.tsp?genericPartNumber=LM1876&fileType=pdf; ComponentLink3Description: Package Specification; ComponentLink3URL: http://www.ti.com/lit/ds/symlink/lm1876.pdf
footprint TI-NDL15 (FM, 15-Leads, Body 20.02x4.5mm, Pitch 1.27mm)
pins on every part: 4 VEE (power)
part A pins: 2 VCC A (power), 3 OUT A (out), 5 GND A (power), 6 MUTE A (in), 7 IN A- (in), 8 IN A+ (in), 9 STANDBY A (in)
part B pins: 1 OUT B (out), 10 GND B (power), 11 MUTE B (in), 12 IN B- (in), 13 IN B+ (in), 14 STANDBY B (in), 15 VCC B (power)

## LM1876T/NOPB
designator U?
Overture Audio Power Amplifier Series Dual 20 Watt Audio Power Amplifier with Mute & Standby Modes, -20 to 85 degC, 15-pin FM (NDL15), Green (RoHS & no Sb/Br); Manufacturer: Texas Instruments; PartNumber: LM1876T/NOPB; Analog Supply Max [V]: 64; Analog Supply Min [V]: 20; Input Type: Analog; Max. Number of Speaker Outputs: 2; SubFamily: Mid/High-Power Amplifier; DatasheetVersion: SNAS097C; PackageVersion: Rev. B, 04/2013; PackageReference: NDL15; PackageDescription: 15-Pin Metal Flange Mount, Body 20.02 x 4.5 mm, Pitch 1.27 mm; Supplier 1: Digi-Key; Supplier Part Number 1: LM1876T/NOPB-ND; Supplier 2: Newark; Supplier Part Number 2: 41K3524; Supplier 3: Mouser; Supplier Part Number 3: 926-LM1876T/NOPB; Eco-Plan: Green (RoHS & no Sb/Br); Power Stage Supply Min(V): 20; Mounting Technology: Through Hole; ComponentLink1Description: Manufacturer URL; ComponentLink1URL: http://www.ti.com/; ComponentLink2Description: Datasheet; ComponentLink2URL: http://www.ti.com/general/docs/lit/getliterature.tsp?genericPartNumber=LM1876&fileType=pdf; ComponentLink3Description: Package Specification; ComponentLink3URL: http://www.ti.com/lit/ds/symlink/lm1876.pdf
footprint TI-NDL15 (FM, 15-Leads, Body 20.02x4.5mm, Pitch 1.27mm)
pins on every part: 4 VEE (power)
part A pins: 2 VCC A (power), 3 OUT A (out), 5 GND A (power), 6 MUTE A (in), 7 IN A- (in), 8 IN A+ (in), 9 STANDBY A (in)
part B pins: 1 OUT B (out), 10 GND B (power), 11 MUTE B (in), 12 IN B- (in), 13 IN B+ (in), 14 STANDBY B (in), 15 VCC B (power)

## LM1876TF
designator U?
Overture Audio Power Amplifier Series Dual 20 Watt Audio Power Amplifier with Mute & Standby Modes, -20 to 85 degC, 15-pin FM (NDB15); Manufacturer: Texas Instruments; PartNumber: LM1876TF; Analog Supply Max [V]: 64; Analog Supply Min [V]: 20; Input Type: Analog; Max. Number of Speaker Outputs: 2; SubFamily: Mid/High-Power Amplifier; DatasheetVersion: SNAS097C; PackageVersion: Rev. B, 02/2013; PackageReference: NDB15; PackageDescription: 15-Pin Metal Flange Mount, Body 20.02 x 4.5 mm, Pitch 1.27 mm; Supplier 1: Digi-Key; Supplier Part Number 1: LM1876TF-ND; Supplier 2: Farnell; Supplier Part Number 2: 9493590; Supplier 3: Mouser; Supplier Part Number 3: 926-LM1876TF; Power Stage Supply Min(V): 20; Mounting Technology: Through Hole; ComponentLink1Description: Manufacturer URL; ComponentLink1URL: http://www.ti.com/; ComponentLink2Description: Datasheet; ComponentLink2URL: http://www.ti.com/general/docs/lit/getliterature.tsp?genericPartNumber=LM1876&fileType=pdf; ComponentLink3Description: Package Specification; ComponentLink3URL: http://www.ti.com/lit/ml/mmsf016/mmsf016.pdf
footprint TI-NDB15 (FM, 15-Leads, Body 20.02x4.5mm, Pitch 1.27mm)
pins on every part: 4 VEE (power)
part A pins: 2 VCC A (power), 3 OUT A (out), 5 GND A (power), 6 MUTE A (in), 7 IN A- (in), 8 IN A+ (in), 9 STANDBY A (in)
part B pins: 1 OUT B (out), 10 GND B (power), 11 MUTE B (in), 12 IN B- (in), 13 IN B+ (in), 14 STANDBY B (in), 15 VCC B (power)

## LM1876TF/NOPB
designator U?
Overture Audio Power Amplifier Series Dual 20 Watt Audio Power Amplifier with Mute & Standby Modes, -20 to 85 degC, 15-pin FM (NDB15), Pb-Free (RoHS Exempt); Manufacturer: Texas Instruments; PartNumber: LM1876TF/NOPB; Analog Supply Max [V]: 64; Analog Supply Min [V]: 20; Input Type: Analog; Max. Number of Speaker Outputs: 2; SubFamily: Mid/High-Power Amplifier; DatasheetVersion: SNAS097C; PackageVersion: Rev. B, 02/2013; PackageReference: NDB15; PackageDescription: 15-Pin Metal Flange Mount, Body 20.02 x 4.5 mm, Pitch 1.27 mm; Supplier 1: Digi-Key; Supplier Part Number 1: LM1876TF/NOPB-ND; Supplier 2: Farnell; Supplier Part Number 2: 1184965; Supplier 3: Newark; Supplier Part Number 3: 41K3525; Supplier 4: Mouser; Supplier Part Number 4: 926-LM1876TF/NOPB; Eco-Plan: Pb-Free (RoHS Exempt); Power Stage Supply Min(V): 20; Mounting Technology: Through Hole; ComponentLink1Description: Manufacturer URL; ComponentLink1URL: http://www.ti.com/; ComponentLink2Description: Datasheet; ComponentLink2URL: http://www.ti.com/general/docs/lit/getliterature.tsp?genericPartNumber=LM1876&fileType=pdf; ComponentLink3Description: Package Specification; ComponentLink3URL: http://www.ti.com/lit/ml/mmsf016/mmsf016.pdf
footprint TI-NDB15 (FM, 15-Leads, Body 20.02x4.5mm, Pitch 1.27mm)
pins on every part: 4 VEE (power)
part A pins: 2 VCC A (power), 3 OUT A (out), 5 GND A (power), 6 MUTE A (in), 7 IN A- (in), 8 IN A+ (in), 9 STANDBY A (in)
part B pins: 1 OUT B (out), 10 GND B (power), 11 MUTE B (in), 12 IN B- (in), 13 IN B+ (in), 14 STANDBY B (in), 15 VCC B (power)

## LM1877M-9
designator U?
Dual Audio Power Amplifier, 0 to 70 degC, 14-pin SOIC (NPA14); Manufacturer: Texas Instruments; PartNumber: LM1877M-9; Analog Supply Max [V]: 24; Analog Supply Min [V]: 6; Input Type: Analog; Max. Number of Speaker Outputs: 2; SubFamily: Mid/High-Power Amplifier; DatasheetVersion: SNAS550B; PackageVersion: Rev. D, 04/2013; PackageReference: NPA14; PackageDescription: 14-Pin Plastic Small Outline, Body 8.992 x 7.493 mm, Pitch 1.27 mm; Supplier 1: Digi-Key; Supplier Part Number 1: LM1877M-9-ND; Supplier 2: Mouser; Supplier Part Number 2: 926-LM1877M-9; Mounting Technology: Surface Mount; ComponentLink1Description: Manufacturer URL; ComponentLink1URL: http://www.ti.com/; ComponentLink2Description: Datasheet; ComponentLink2URL: http://www.ti.com/general/docs/lit/getliterature.tsp?genericPartNumber=LM1877&fileType=pdf; ComponentLink3Description: Package Specification; ComponentLink3URL: http://www.ti.com/lit/ds/symlink/lm1877.pdf
footprint TI-NPA14_N (SOIC, 14-Leads, Body 8.992x7.493mm, Pitch 1.27mm, IPC Medium Density)
footprint TI-NPA14_L (SOIC, 14-Leads, Body 8.992x7.493mm, Pitch 1.27mm, IPC High Density)
footprint TI-NPA14_M (SOIC, 14-Leads, Body 8.992x7.493mm, Pitch 1.27mm, IPC Low Density)
part A pins: 1 BIAS (in), 2 OUT1 (out), 6 IN1 (in), 7 FB1 (in), 8 FB2 (in), 9 IN2 (in), 13 OUT2 (out)
part B pins: 3 GND (power), 4 GND (power), 5 GND (power), 10 GND (power), 11 GND (power), 12 GND (power), 14 V+ (power)

## LM1877M-9/NOPB
designator U?
Dual Audio Power Amplifier, 0 to 70 degC, 14-pin SOIC (NPA14), Green (RoHS & no Sb/Br); Manufacturer: Texas Instruments; PartNumber: LM1877M-9/NOPB; Analog Supply Max [V]: 24; Analog Supply Min [V]: 6; Input Type: Analog; Max. Number of Speaker Outputs: 2; SubFamily: Mid/High-Power Amplifier; DatasheetVersion: SNAS550B; PackageVersion: Rev. D, 04/2013; PackageReference: NPA14; PackageDescription: 14-Pin Plastic Small Outline, Body 8.992 x 7.493 mm, Pitch 1.27 mm; Supplier 1: Digi-Key; Supplier Part Number 1: LM1877M-9/NOPB-ND; Supplier 2: Farnell; Supplier Part Number 2: 1685321; Supplier 3: Newark; Supplier Part Number 3: 41K3526; Supplier 4: Mouser; Supplier Part Number 4: 926-LM1877M-9/NOPB; Eco-Plan: Green (RoHS & no Sb/Br); Mounting Technology: Surface Mount; ComponentLink1Description: Manufacturer URL; ComponentLink1URL: http://www.ti.com/; ComponentLink2Description: Datasheet; ComponentLink2URL: http://www.ti.com/general/docs/lit/getliterature.tsp?genericPartNumber=LM1877&fileType=pdf; ComponentLink3Description: Package Specification; ComponentLink3URL: http://www.ti.com/lit/ds/symlink/lm1877.pdf
footprint TI-NPA14_N (SOIC, 14-Leads, Body 8.992x7.493mm, Pitch 1.27mm, IPC Medium Density)
footprint TI-NPA14_L (SOIC, 14-Leads, Body 8.992x7.493mm, Pitch 1.27mm, IPC High Density)
footprint TI-NPA14_M (SOIC, 14-Leads, Body 8.992x7.493mm, Pitch 1.27mm, IPC Low Density)
part A pins: 1 BIAS (in), 2 OUT1 (out), 6 IN1 (in), 7 FB1 (in), 8 FB2 (in), 9 IN2 (in), 13 OUT2 (out)
part B pins: 3 GND (power), 4 GND (power), 5 GND (power), 10 GND (power), 11 GND (power), 12 GND (power), 14 V+ (power)

## LM1877MX-9/NOPB
designator U?
Dual Audio Power Amplifier, 0 to 70 degC, 14-pin SOIC (NPA14), Green (RoHS & no Sb/Br); Manufacturer: Texas Instruments; PartNumber: LM1877MX-9/NOPB; Analog Supply Max [V]: 24; Analog Supply Min [V]: 6; Input Type: Analog; Max. Number of Speaker Outputs: 2; SubFamily: Mid/High-Power Amplifier; DatasheetVersion: SNAS550B; PackageVersion: Rev. D, 04/2013; PackageReference: NPA14; PackageDescription: 14-Pin Plastic Small Outline, Body 8.992 x 7.493 mm, Pitch 1.27 mm; Supplier 1: Digi-Key; Supplier Part Number 1: LM1877MX-9/NOPBTR-ND; Supplier 2: Digi-Key; Supplier Part Number 2: LM1877MX-9/NOPBCT-ND; Supplier 3: Digi-Key; Supplier Part Number 3: LM1877MX-9/NOPBDKR-ND; Supplier 4: Newark; Supplier Part Number 4: 41K3527; Supplier 5: Mouser; Supplier Part Number 5: 926-LM1877MX-9/NOPB; Eco-Plan: Green (RoHS & no Sb/Br); Mounting Technology: Surface Mount; ComponentLink1Description: Manufacturer URL; ComponentLink1URL: http://www.ti.com/; ComponentLink2Description: Datasheet; ComponentLink2URL: http://www.ti.com/general/docs/lit/getliterature.tsp?genericPartNumber=LM1877&fileType=pdf; ComponentLink3Description: Package Specification; ComponentLink3URL: http://www.ti.com/lit/ds/symlink/lm1877.pdf
footprint TI-NPA14_N (SOIC, 14-Leads, Body 8.992x7.493mm, Pitch 1.27mm, IPC Medium Density)
footprint TI-NPA14_L (SOIC, 14-Leads, Body 8.992x7.493mm, Pitch 1.27mm, IPC High Density)
footprint TI-NPA14_M (SOIC, 14-Leads, Body 8.992x7.493mm, Pitch 1.27mm, IPC Low Density)
part A pins: 1 BIAS (in), 2 OUT1 (out), 6 IN1 (in), 7 FB1 (in), 8 FB2 (in), 9 IN2 (in), 13 OUT2 (out)
part B pins: 3 GND (power), 4 GND (power), 5 GND (power), 10 GND (power), 11 GND (power), 12 GND (power), 14 V+ (power)

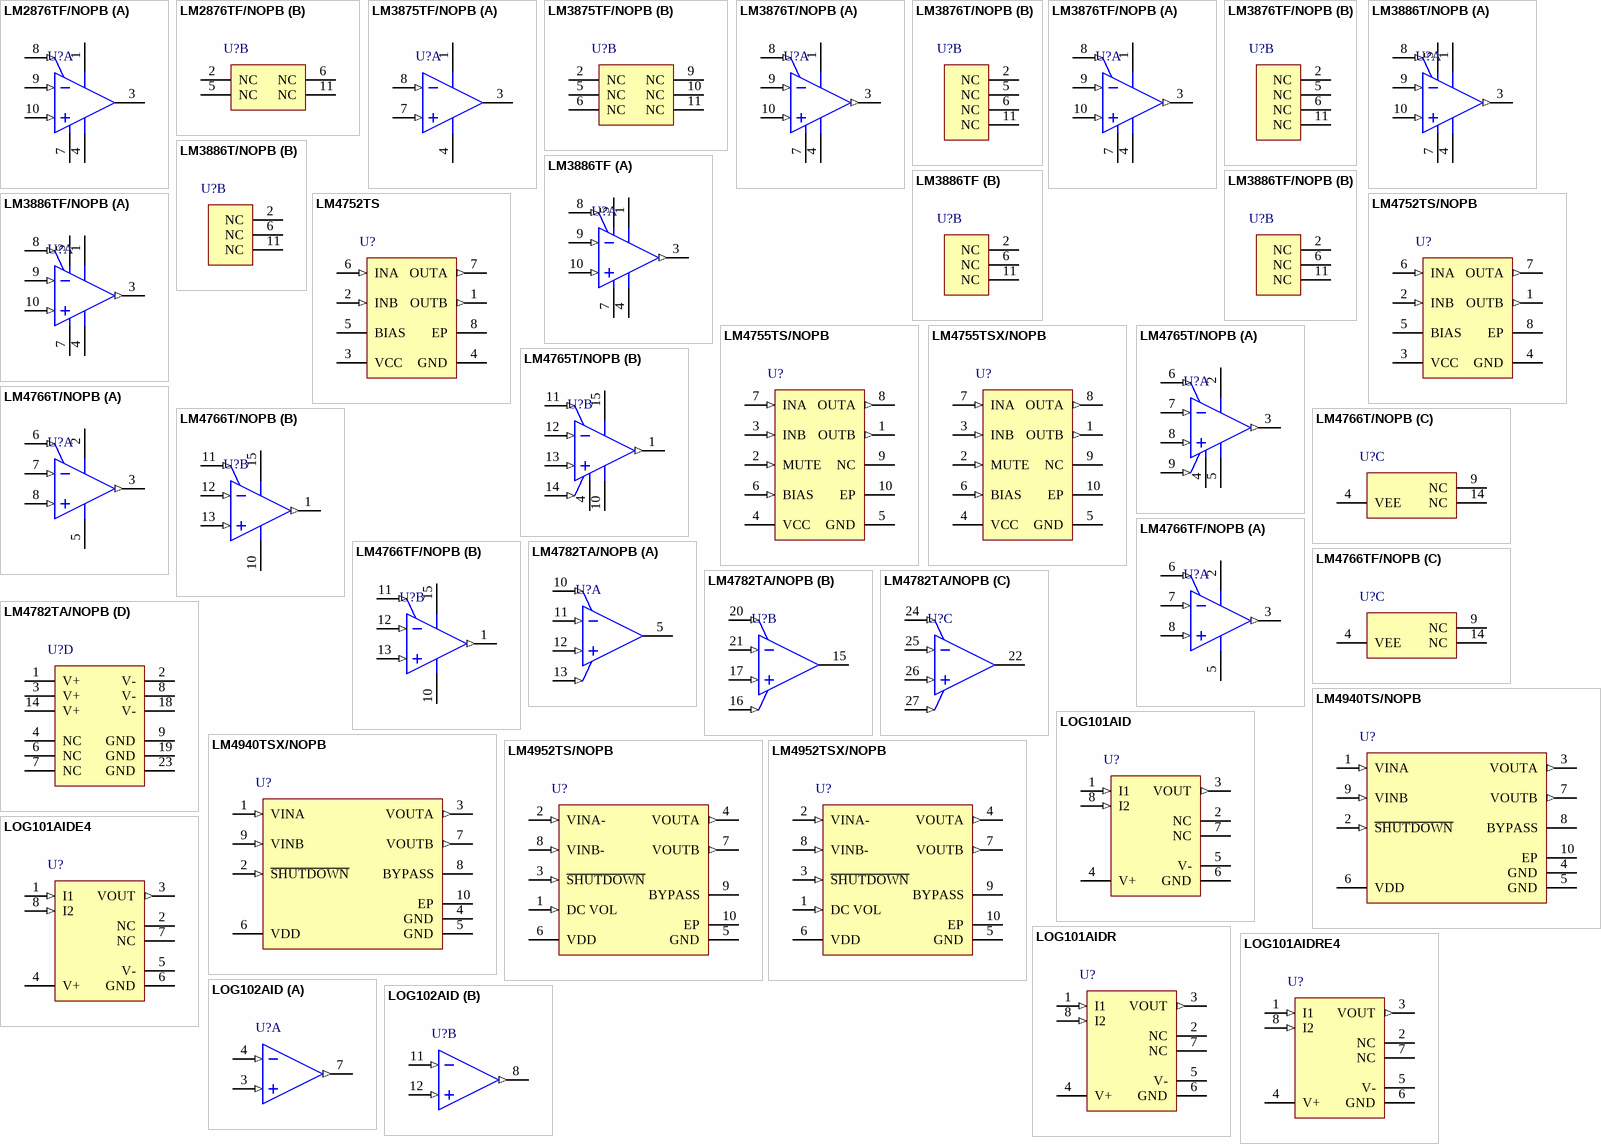
[diagram p3: symbols LM2876TF/NOPB to LOG102AID]

## LM2876TF/NOPB
designator U?
High-Performance 40 Watt Audio Power Amplifier with Mute, -20 to 85 degC, 11-pin FM (NDA11), Pb-Free (RoHS Exempt); Manufacturer: Texas Instruments; PartNumber: LM2876TF/NOPB; Input Type: Analog; Max. Number of Speaker Outputs: 1; SubFamily: Mid/High-Power Amplifier; DatasheetVersion: SNAS088C; PackageVersion: Rev. D, 02/2013; PackageReference: NDA11; PackageDescription: 11-Pin Metal Flange Mount, Body 20.02 x 4.5 mm, Pitch 1.7 mm; Supplier 1: Digi-Key; Supplier Part Number 1: LM2876TF/NOPB-ND; Supplier 2: Farnell; Supplier Part Number 2: 1694009; Supplier 3: Newark; Supplier Part Number 3: 41K4439; Supplier 4: Mouser; Supplier Part Number 4: 926-LM2876TF/NOPB; Eco-Plan: Pb-Free (RoHS Exempt); Mounting Technology: Through Hole; ComponentLink1Description: Manufacturer URL; ComponentLink1URL: http://www.ti.com/; ComponentLink2Description: Datasheet; ComponentLink2URL: http://www.ti.com/general/docs/lit/getliterature.tsp?genericPartNumber=LM2876&fileType=pdf; ComponentLink3Description: Package Specification; ComponentLink3URL: http://www.ti.com/lit/ml/mmsf015/mmsf015.pdf
footprint TI-NDA11 (FM, 11-Leads, Body 20.02x4.5mm, Pitch 1.7mm)
part A pins: 1 V+ (power), 3 OUT (hiz), 4 V- (power), 7 GND (power), 8 MUTE (in), 9 VIN- (in), 10 VIN+ (in)
part B pins: 2 NC, 5 NC, 6 NC, 11 NC